# EAGLE library part KAILH_MXPG_WITH_ENC (library pimoroni-connectors)
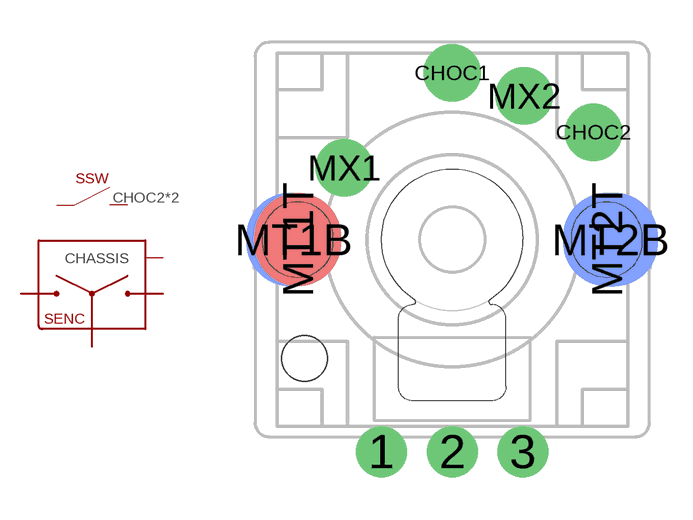
[diagram p24: symbol with the pads of KAILH_MXPG_SOLDER_WITH_ENC; footprint KAILH_MXPG_SOLDER_WITH_ENC]

Designator prefix S; gates SW=2P ENC=ENCODER3P

## KAILH_MXPG_WITH_ENC  [KAILH_MXPG_SOLDER_WITH_ENC]
1  ENC:1
2  ENC:2
3  ENC:3
CHOC1  SW:1
CHOC2  SW:2
MT1B  ENC:CHASSIS
MT1T  ENC:CHASSIS
MT2B  ENC:CHASSIS
MT2T  ENC:CHASSIS
MX1  SW:1
MX2  SW:2

## Footprint KAILH_MXPG_SOLDER_WITH_ENC (pad centres in mm)
drill 1.1 pad 1.8: 1 -2.5,-7.5; 2 0,-7.5; 3 2.5,-7.5
drill 1.2 pad 2.032: CHOC1 0,5.9; CHOC2 5,3.8
smd 3.35 x 3.3 bottom: MT1B -5.605,0; MT2B 5.605,0
smd 3.07 x 3.3: MT1T -5.465,0; MT2T 5.465,0
drill 1.3 pad 2.032: MX1 -3.81,2.54; MX2 2.54,5.08
hole 1.6 at -5.22,-4.2